# Altium schematic symbol library Inductor.SchLib: 1 symbol
Pins are listed as number, name and electrical type; pins without a type are passive.

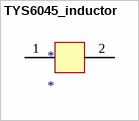
[diagram p0: symbol TYS6045_inductor]

## TYS6045_inductor
designator *
footprint TYS6045 (Chip Inductor, 2-Leads, Body 6.00x6.00mm, IPC Medium Density)
footprint CDRH62B (Sumida Power Inductor)
pins: 1, 2